# Altium schematic symbol library IND-SM-0603-10uH.Schlib: 1 symbol
Pins are listed as number, name and electrical type; pins without a type are passive.

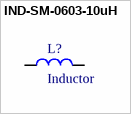
[diagram p0: symbol IND-SM-0603-10uH]

## IND-SM-0603-10uH
designator L?, comment Inductor
IND SM 0603 10uH 20%
pins: 1, 2